# Altium schematic symbol library ESP32.SCHLIB: 15 symbols
Pins are listed as number, name and electrical type; pins without a type are passive.

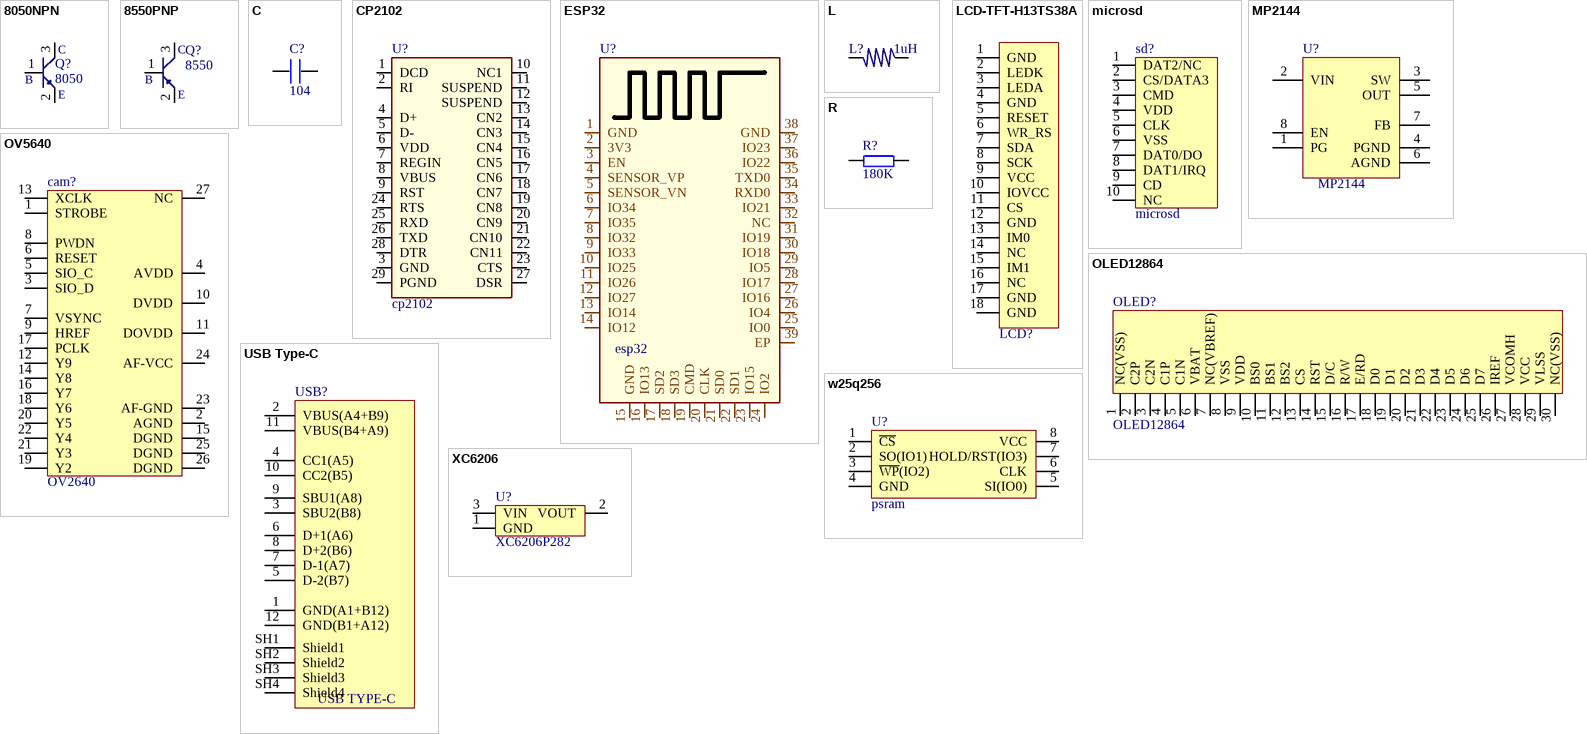
[diagram p0: symbols 8050NPN to XC6206]

## 8050NPN
designator Q?, comment 8050
footprint SOT23-3L (3x1.3x1mm(长宽高))
pins: 1 B, 2 E, 3 C

## 8550PNP
designator Q?, comment 8550
footprint SOT23-3L (3x1.3x1mm(长宽高))
pins: 1 B, 2 E, 3 C

## C
designator C?, comment 104
footprint C 0603_L (无极性贴片电容)
pins: 1, 2

## CP2102
designator U?, comment cp2102
footprint QFN28 5x5_N (28脚，长x宽x高：5x5x0.8mm，脚距：0.5mm)
pins: 1 DCD, 2 RI, 3 GND, 4 D+, 5 D-, 6 VDD, 7 REGIN, 8 VBUS, 9 RST, 10 NC1, 11 SUSPEND, 12 SUSPEND, 13 CN2, 14 CN3, 15 CN4, 16 CN5, 17 CN6, 18 CN7, 19 CN8, 20 CN9, 21 CN10, 22 CN11, 23 CTS, 24 RTS, 25 RXD, 26 TXD, 27 DSR, 28 DTR, 29 PGND

## ESP32
designator U?, comment esp32
footprint ESP32
pins: 1 GND, 2 3V3, 3 EN, 4 SENSOR_VP, 5 SENSOR_VN, 6 IO34, 7 IO35, 8 IO32, 9 IO33, 10 IO25, 11 IO26, 12 IO27, 13 IO14, 14 IO12, 15 GND, 16 IO13, 17 SD2, 18 SD3, 19 CMD, 20 CLK, 21 SD0, 22 SD1, 23 IO15, 24 IO2, 25 IO0, 26 IO4, 27 IO16, 28 IO17, 29 IO5, 30 IO18, 31 IO19, 32 NC, 33 IO21, 34 RXD0, 35 TXD0, 36 IO22, 37 IO23, 38 GND, 39 EP

## L
designator L?, comment 1uH
footprint NR3015 (3.0mm*3.0mm*1.5mm(长*宽*高）)
pins: 1, 2

## LCD-TFT-H13TS38A
designator LCD?  (value not drawn)
LCD,TFT,1.3'240*240,禹龙
footprint TFT-H13TS43B (TFT,1.3',240*240)
pins: 1 GND, 2 LEDK, 3 LEDA, 4 GND, 5 RESET, 6 WR_RS, 7 SDA, 8 SCK, 9 VCC, 10 IOVCC, 11 CS, 12 GND, 13 IM0, 14 NC, 15 IM1, 16 NC, 17 GND, 18 GND

## microsd
designator sd?
footprint microsd3
pins: 1 DAT2/NC, 2 CS/DATA3, 3 CMD, 4 VDD, 5 CLK, 6 VSS, 7 DAT0/DO, 8 DAT1/IRQ, 9 CD, 10 NC

## MP2144
designator U?
footprint SOT23-8L
pins: 1 PG, 2 VIN, 3 SW, 4 PGND, 5 OUT, 6 AGND, 7 FB, 8 EN

## OLED12864
designator OLED?
footprint OLED_0.96 (128*64)
pins: 1 NC(VSS), 2 C2P, 3 C2N, 4 C1P, 5 C1N, 6 VBAT, 7 NC(VBREF), 8 VSS, 9 VDD, 10 BS0, 11 BS1, 12 BS2, 13 CS, 14 RST, 15 D/C, 16 R/W, 17 E/RD, 18 D0, 19 D1, 20 D2, 21 D3, 22 D4, 23 D5, 24 D6, 25 D7, 26 IREF, 27 VCOMH, 28 VCC, 29 VLSS, 30 NC(VSS)

## OV5640
designator cam?, comment OV2640
footprint OV5640 (fpc24)
pins: 1 STROBE, 2 AGND, 3 SIO_D, 4 AVDD, 5 SIO_C, 6 RESET, 7 VSYNC, 8 PWDN, 9 HREF, 10 DVDD, 11 DOVDD, 12 Y9, 13 XCLK, 14 Y8, 15 DGND, 16 Y7, 17 PCLK, 18 Y6, 19 Y2, 20 Y5, 21 Y3, 22 Y4, 23 AF-GND, 24 AF-VCC, 25 DGND, 26 DGND, 27 NC

## R
designator R?, comment 180K
footprint R 0603_L (1/10W贴片电阻)
pins: 1, 2

## USB Type-C
designator USB?, comment USB TypeC  (value not drawn)
12P TypeC 母座
footprint USB Type-C (USB Type-C 12P/16P)
pins: 1 GND(A1+B12), 2 VBUS(A4+B9), 3 SBU2(B8), 4 CC1(A5), 5 D-2(B7), 6 D+1(A6), 7 D-1(A7), 8 D+2(B6), 9 SBU1(A8), 10 CC2(B5), 11 VBUS(B4+A9), 12 GND(B1+A12), SH1 Shield1, SH2 Shield2, SH3 Shield3, SH4 Shield4
text: USB TYPE-C

## w25q256
designator U?, comment psram
footprint SOP8_L (5*6*1.8mm（长宽高）)
pins: 1 ~{CS}, 2 SO(IO1), 3 ~{WP}(IO2), 4 GND, 5 SI(IO0) (power), 6 CLK, 7 HOLD/RST(IO3) (power), 8 VCC

## XC6206
designator U?, comment XC6206P282
LDO,SOT23,1.2~5.0V
footprint SOT23-3L
pins: 1 GND, 2 VOUT, 3 VIN